# Altium schematic symbol library 晶振.SCHLIB: 4 symbols
Pins are listed as number, name and electrical type; pins without a type are passive.

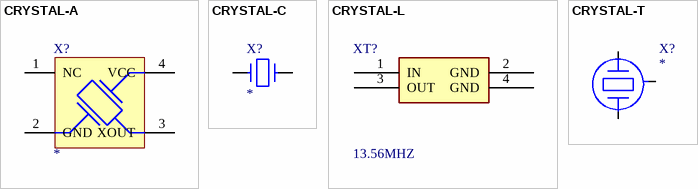
[diagram p0: symbols CRYSTAL-A to CRYSTAL-T]

## CRYSTAL-A
designator X?
pins: 1 NC, 2 GND, 3 XOUT, 4 VCC

## CRYSTAL-C
designator X?
pins: 1, 2

## CRYSTAL-L
designator XT?, comment 13.56MHZ
pins: 1 IN, 2 GND, 3 OUT, 4 GND

## CRYSTAL-T
designator X?
pins: 1 P1, 2 P2, 3 P3